# Altium footprint library SPM10065VT.PcbLib: 1 footprints
Each footprint in its own frame and in the unit in brackets; x right, y up, seen from the top. Pads: shape width x height; smd on the part's side, far side on the other; paste and mask are expansions set on the pad; w line width, h text height; cw(c..) or ccw(c..) is an arc to the next point about the centre after c.
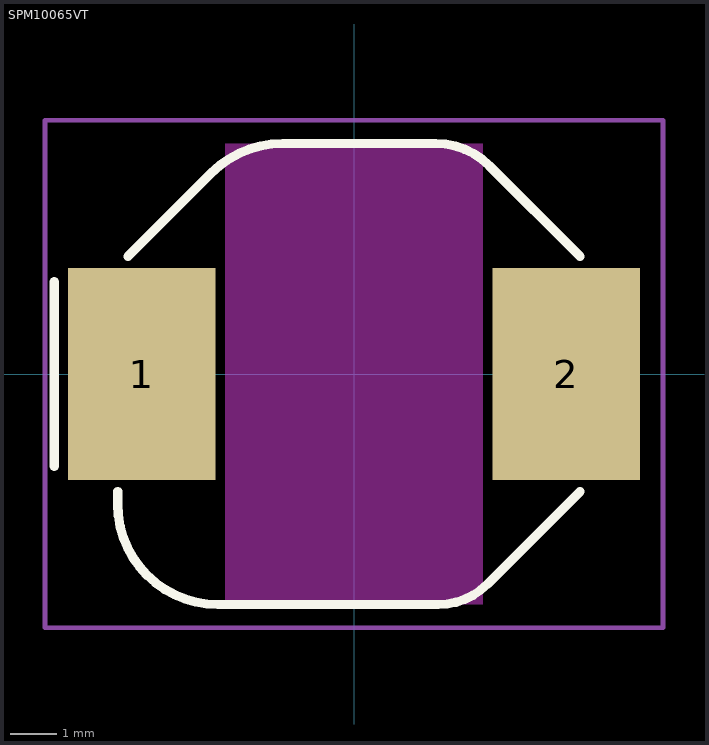
[diagram p0: the footprint, top view; thin cyan lines are the x and y axes]

## SPM10065VT [mm]
pads (2):
  rect 3.2x4.6 smd: 1(-4.6,0) 2(4.6,0)
Top Layer keep-out:
  rectangle: -2.8,-5 2.8,5
Top Overlay:
  lines w0.2: -6.5,-2 -6.5,2 ; -5.125,-2.55 -5.125,-2.824 ccw(c-2.949,-2.824) -2.949,-5 1.822,-5 ccw(c1.822,-3.485) 2.894,-4.556 4.9,-2.55 ; -4.9,2.55 -3.092,4.358 cw(c-1.541,2.807) -1.541,5 1.43,5 ; -1.43,5 1.773,5 cw(c1.773,3.366) 2.929,4.521 4.9,2.55
Top Courtyard:
  lines w0.1: -6.7,-5.5 -2.8,-5.5 6.7,-5.5 6.7,5.5 -6.7,5.5 -6.7,-5.5
3D body "spm10065vt.step": height 6.36, standoff 0.01, extent -5.217,-5 5.283,5